# Altium footprint library SD_Card.PcbLib: 1 footprints
Each footprint in its own frame and in the unit in brackets; x right, y up, seen from the top. Pads: shape width x height; smd on the part's side, far side on the other; paste and mask are expansions set on the pad; w line width, h text height; cw(c..) or ccw(c..) is an arc to the next point about the centre after c.
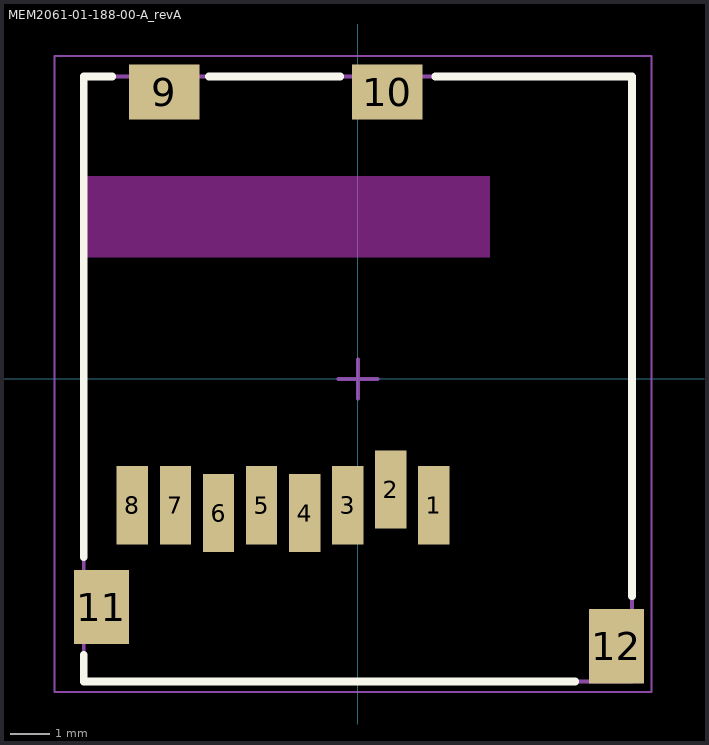
[diagram p0: the footprint, top view; thin cyan lines are the x and y axes]

## MEM2061-01-188-00-A_revA [mm] "Micro SD Memory Card Connector, 1.88mm Profile SMT,Push Push, with normally closed switch"
height 1.88
pads (12):
  rect 0.8x2 smd: 1(1.94,-3.225) 2(0.84,-2.825) 3(-0.26,-3.225) 4(-1.36,-3.425) 5(-2.46,-3.225) 6(-3.56,-3.425) 7(-4.66,-3.225) 8(-5.76,-3.225)
  rect 1.8x1.4 smd: 9(-4.95,7.325) 10(0.75,7.325)
  rect 1.4x1.9 smd: 11(-6.55,-5.825) 12(6.6,-6.825)
Top Overlay:
  lines w0.2: -7,-7.05 -7,-7.725 5.55,-7.725 ; -7,-4.55 -7,7.725 -6.275,7.725 ; -3.8,7.725 -0.45,7.725 ; 1.975,7.725 7,7.725 ; 7,-5.55 7,7.725 ; 7,7.725 7,7.725
Keep-Out Layer:
  rectangle: -7,3.095 3.37,5.175
Mechanical 13:
  lines w0.1: -7,-7.725 -7,7.725 7,7.725 7,-7.725 -7,-7.725
Mechanical 15:
  lines w0.05: -7.75,-8 7.5,-8 7.5,8.25 -5.25,8.25 -7.75,8.25 -7.75,-8
  lines w0.1: -0.5,0 0.5,0 ; 0,-0.5 0,0.5
3D body "mem2061-01-188-00a_reva.step": height 1.95, standoff 0, extent -7.125,-7.65 7.075,7.8